# EAGLE library part 62402821622 (library WR-WTB)
WR-WTB 2.00 mm Male Dual Row Vertical Shrouded Header w. positive locking Material Properties Insulator Material PA66 Insulator Flammability Rating UL94 V-0 Color White Contact Material Copper Alloy Contact Plating Tin Contact Type Stamped Certification UL Approval E323964 General Information Operating Temperature -25 °C up to +85 °C Compliance RoHS IR 3 A Working Voltage 250 V (AC) Withstanding Voltage 1000 V (AC) Contact Resistance 20 mΩ RISO 1000 MΩ Pitch 2 mm Gender Male Type Vertical Packaging Properties Packaging Tube Details see: www.we-online.com/en/components/products/WTB_2_00_MALE_DUAL_ROW_VERTICAL_SHROUDED_HEADER_W_POSITIVE_LOCKING_6240XX21622 Updated by Ella 2025-07-24 2025 (C) Würth Elektronik
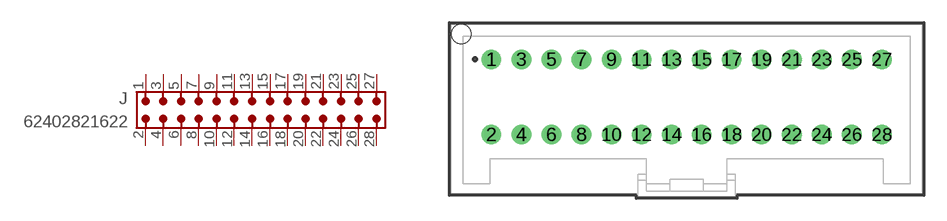
[diagram p114: symbol with the pads of 62402821622; footprint 62402821622]

Designator prefix J

## 62402821622 (CONTACT-RESISTANCE: 20mOhm; DATASHEET: https://www.we-online.com/redexpert/spec/62402821622?ae; GENDER: Male; IR: 3A; L: 31.4mm; MOUNT: THT; PACKAGING: Tube; PART-NUMBER: 62402821622; PCB-CABLE-PANEL: PCB; PINS: 28; PITCH: 2mm; TYPE: Vertical; VALUE: 62402821622; WORKING-VOLTAGE: 250V(AC))  [62402821622]
1  1  pas
2  2  pas
3  3  pas
4  4  pas
5  5  pas
6  6  pas
7  7  pas
8  8  pas
9  9  pas
10  10  pas
11  11  pas
12  12  pas
13  13  pas
14  14  pas
15  15  pas
16  16  pas
17  17  pas
18  18  pas
19  19  pas
20  20  pas
21  21  pas
22  22  pas
23  23  pas
24  24  pas
25  25  pas
26  26  pas
27  27  pas
28  28  pas

## Footprint 62402821622 (pad centres in mm)
WR-WTB 2.00 mm Male Dual Row Vertical Shrouded Header w. positive locking, 28 Pins
drill 0.8: 1 -13,3.3; 2 -13,-1.7; 3 -11,3.3; 4 -11,-1.7; 5 -9,3.3; 6 -9,-1.7; 7 -7,3.3; 8 -7,-1.7; 9 -5,3.3; 10 -5,-1.7; 11 -3,3.3; 12 -3,-1.7; 13 -1,3.3; 14 -1,-1.7; 15 1,3.3; 16 1,-1.7; 17 3,3.3; 18 3,-1.7; 19 5,3.3; 20 5,-1.7; 21 7,3.3; 22 7,-1.7; 23 9,3.3; 24 9,-1.7; 25 11,3.3; 26 11,-1.7; 27 13,3.3; 28 13,-1.7
hole 1.3 at -15,5